# EAGLE library part PRTR5V0 (library protection)
Ultra low capacitance double rail-to-rail ESD protection PTRT5V0 General description Ultra low capacitance double rail-to-rail ElectroStatic Discharge (ESD) protection device in a SOT457 (SC-74) small Surface-Mounted Device (SMD) plastic package. The device is designed to protect two Hi-Speed data lines or high-frequency signal lines from the damage caused by ESD and other transients. PRTR5V0U2D integrates two ultra low capacitance rail-to-rail ESD protection channels and one additional ESD protection diode to ensure signal line protection even if no supply voltage is available. Features n ESD protection of two Hi-Speed data lines or high-frequency signal lines n Ultra low input/output to ground capacitance: C(I/O-GND) = 1 pF n ESD protection up to 8 kV n IEC 61000-4-2, level 4 (ESD) n Very low clamping voltage due to an integrated additional ESD protection diode n Very low reverse current n AEC-Q101 qualified (85 °C) n Small SMD plastic package Applications n USB 2.0 interfaces n Digital Video Interface (DVI) n High Definition Multimedia Interface (HDMI) n Mobile and cordless phones n Personal Digital Assistants (PDA) n Digital cameras n Wide Area Network (WAN) / Local Area Network (LAN) systems n PCs, notebooks, printers and other PC peripherals
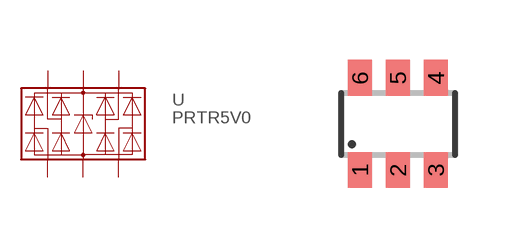
[diagram p1: symbol with the pads of SOT23-6; footprint SOT23-6]

Designator prefix -

## PRTR5V0 (MPN: PRTR5V0U2D; OC_FARNELL: 2069377; PACKAGE: SOT-457; SUPPLIER: NSP)  [SOT23-6]
1  A
2  GND
3  B
4  C
5  UCC
6  D

## Footprint SOT23-6 (pad centres in mm)
Small Outline Transistor 6 lead
smd 0.6 x 0.9: 1 -0.95,-1.15; 2 0,-1.15; 3 0.95,-1.15; 4 0.95,1.15; 5 0,1.15; 6 -0.95,1.15